# EAGLE library part 7PIN (library 5051)
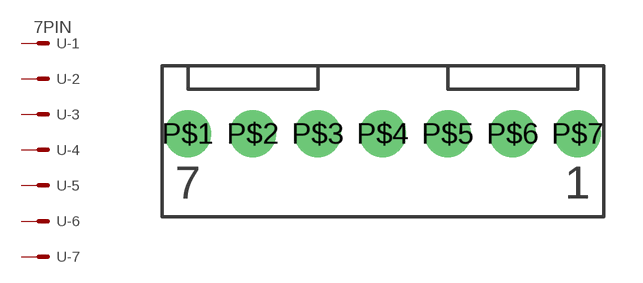
[diagram p3: symbol with the pads of 5045-07; footprint 5045-07]

Designator prefix -; gates -1=MV -2=M -3=M -4=M -5=M -6=M -7=M

## 7PIN5045-07  [5045-07]
P$1  -7:S  pas
P$2  -6:S  pas
P$3  -5:S  pas
P$4  -4:S  pas
P$5  -3:S  pas
P$6  -2:S  pas
P$7  -1:S  pas

## Footprint 5045-07 (pad centres in mm)
drill 1 pad 1.8: P$1 -7.5,0; P$2 -5,0; P$3 -2.5,0; P$4 0,0; P$5 2.5,0; P$6 5,0; P$7 7.5,0